# EAGLE library part LH0033C (library 1A-meinLib)
Fast Buffer, 1500V/us, +-10V an 50 Ohm, National semoconductor, calogic, Metal can TO8-12
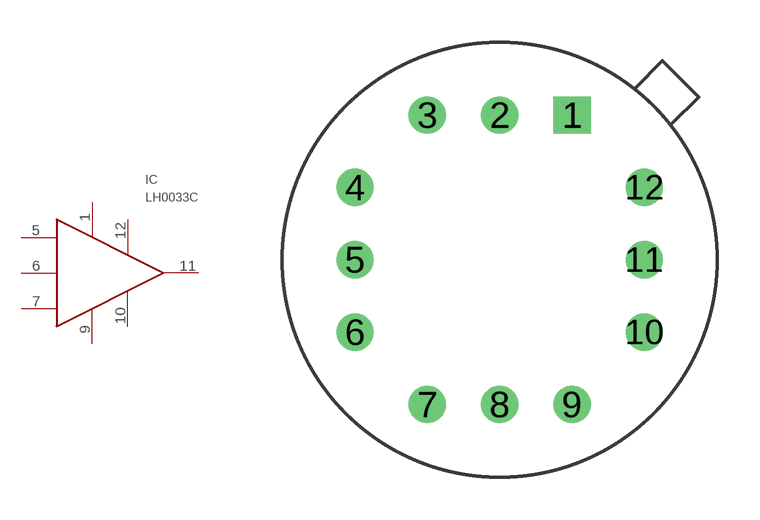
[diagram p157: symbol with the pads of TO8-12_LEAD; footprint TO8-12_LEAD]

Designator prefix IC

## LH0033C  [TO8-12_LEAD]
1  1  pwr
5  5  in
6  6  pas
7  7  out
9  9  pwr
10  10  pwr
11  11  out
12  12  pwr

## Footprint TO8-12_LEAD (pad centres in mm)
drill 0.8 square: 1 2.54,5.08
drill 0.8 round: 2 0,5.08; 3 -2.54,5.08; 4 -5.08,2.54; 5 -5.08,0; 6 -5.08,-2.54; 7 -2.54,-5.08; 8 0,-5.08; 9 2.54,-5.08; 10 5.08,-2.54; 11 5.08,0; 12 5.08,2.54